# Altium footprint library CAP SMD.PcbLib: 27 footprints (part 2 of 2)
Each footprint in its own frame and in the unit in brackets; x right, y up, seen from the top. Pads: shape width x height; smd on the part's side, far side on the other; paste and mask are expansions set on the pad; w line width, h text height; cw(c..) or ccw(c..) is an arc to the next point about the centre after c.
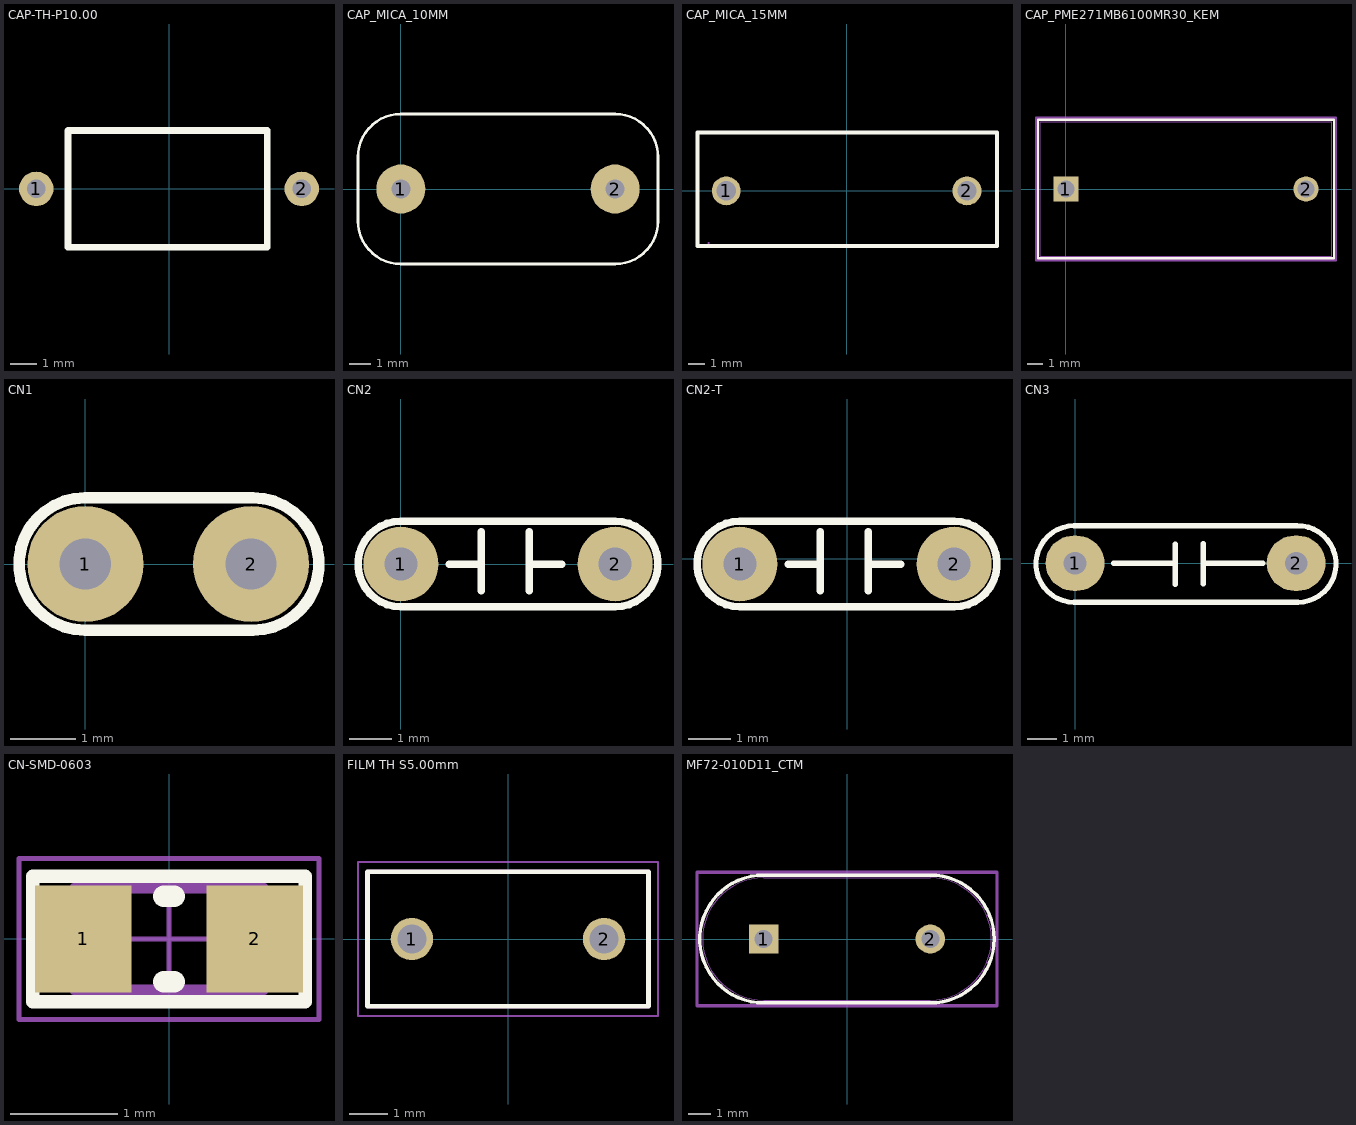
[diagram p1: the footprints below, top view; thin cyan lines are the x and y axes]

## CAP-TH-P10.00 [mm]
pads (2):
  round 1.3 hole 0.7 paste+0 mask+0.051: 1(-5,0) 2(5,0)
Top Overlay:
  lines w0.254: -3.8,-2.2 -3.8,2.2 3.7,2.2 3.7,-2.2 -3.8,-2.2
Mechanical 15:
  lines w0.051: -3.81,-2.21 3.708,-2.21 3.708,2.184 -3.81,2.184 -3.81,-2.21
Mechanical 29:
  text "'.Designator'" at -3.734,-0.762 h1.52
3D body "c911u102mvwdba7317.stp": height 14, standoff -17.8, extent -5.249,-2.514 5.401,2.489

## CAP_MICA_10MM [mil]
pads (2):
  round 90 hole 35: 1(0,0) 2(393.7,0)
Top Overlay:
  lines w4.72: -78.74,-59.06 ccw(c0,-59.06) 0,-137.8 393.7,-137.8 ccw(c393.7,-59.06) 472.44,-59.06 ; -78.74,59.06 cw(c0,59.06) 0,137.8 393.7,137.8 cw(c393.7,59.06) 472.44,59.06
  lines w5: -78.74,-59.06 -78.74,59.06 ; 472.44,-59.06 472.44,59.06
Mechanical 29:
  text "'.Designator'" at 27,-12.01 h60
3D body "User Library-Capacitor MKT_B32591C3104 (Pitch 10mm).STEP": height 570.87, standoff -157.48, extent -59.9,-99.85 451.9,97

## CAP_MICA_15MM [mm]
pads (2):
  round 1.8 hole 1.2 paste+0 mask+0.05: 1(-7.5,0) 2(7.5,0)
Top Overlay:
  lines w0.254: -9.296,-3.429 9.373,-3.429 9.373,3.632 -9.296,3.632 -9.296,-3.429
Mechanical 15:
  region: -8.54,-3.25 -8.54,-3.275 -8.575,-3.31 -8.625,-3.31 -8.66,-3.275 -8.66,-3.25 -8.66,-3.225 -8.625,-3.19 -8.575,-3.19 -8.54,-3.225
  region: 7.9,0 7.9,-0.08 7.839,-0.227 7.727,-0.339 7.58,-0.4 7.42,-0.4 7.273,-0.339 7.161,-0.227 7.1,-0.08 7.1,0 7.1,0.08 7.161,0.227 7.273,0.339 7.42,0.4 7.58,0.4 7.727,0.339 7.839,0.227 7.9,0.08
  region: -7.1,0 -7.1,-0.08 -7.161,-0.227 -7.273,-0.339 -7.42,-0.4 -7.58,-0.4 -7.727,-0.339 -7.839,-0.227 -7.9,-0.08 -7.9,0 -7.9,0.08 -7.839,0.227 -7.727,0.339 -7.58,0.4 -7.42,0.4 -7.273,0.339 -7.161,0.227 -7.1,0.08
  lines w0.051: -9.322,-3.429 -9.322,3.658 9.373,3.658 9.373,-3.429 -9.322,-3.429
Mechanical 29:
  text "'.Designator'" at -8.407,-0.584 h1.52
3D body "User Library-CBB81_W18_5_H12_5_T7_0_P15_0.STEP": height 15.5, standoff -10, extent -9.248,-3.429 9.248,3.571

## CAP_PME271MB6100MR30_KEM [mil]
pads (2):
  rect 63x63 / inner round 60 / far side rect 63x63 hole 43 paste-31.5 mask+0: 1(0,0)
  round 63 / inner round 60 / far side round 63 hole 43 paste-31.5 mask+0: 2(598.43,0)
Top Overlay:
  lines w6: -69.79,-172.5 668.21,-172.5 668.21,172.5 -69.79,172.5 -69.79,-172.5
Mechanical 15:
  lines w1: -64.79,-167.5 663.21,-167.5 663.21,167.5 -64.79,167.5 -64.79,-167.5
  lines w6: -74.79,-177.5 -74.79,177.5 673.21,177.5 673.21,-177.5 -74.79,-177.5
Mechanical 29:
  text "'.Designator'" at 43,-17 h50
3D body "CAP_PME271MB6100MR30_KEM.step": height 542.99, standoff -199.02, extent -81.3,-167.48 646.74,167.48

## CN1 [mil]
height 200
pads (2):
  round 70 hole 31: 1(0,0) 2(100,0)
Top Overlay:
  lines w7: 100,-40 0,-40 cw(c0,0) 0,40 100,40 ; 101,-40 ccw(c101,0) 101,40
Mechanical 29:
  text "'.Designator'" at -52.06,-3.5 h19.68
3D body "SW3dPS-Cap 100n.STEP": height 265, standoff -46.85, extent -59.94,-30.01 170.06,36.78

## CN2 [mil]
height 200
pads (2):
  round 70 hole 31: 1(0,0) 2(200,0)
Top Overlay:
  lines w7: 45,0 75,0 ; 75,-25 75,30 ; 120,-25 120,30 ; 120,0 150,0 ; 0,-40 cw(c0,0) 0,40 200,40 cw(c200,0) 200,-40 0,-40
Mechanical 29:
  text "'.Designator'" at -11.06,-7.5 h19.68
3D body "tu hoa 5mm.step": height 407.48, standoff -87.28, extent -54.48,-44.21 260.48,54.6

## CN2-T [mil]
height 200
pads (2):
  round 70 hole 31: 1(-100,-5) 2(100,-5)
Top Overlay:
  lines w7: -55,-5 -25,-5 ; -25,-30 -25,25 ; 20,-30 20,25 ; 20,-5 50,-5 ; -100,-45 cw(c-100,-5) -100,35 100,35 cw(c100,-5) 100,-45 -100,-45
Mechanical 29:
  text "'.Designator'" at -92,-23.01 h60
3D body "User Library-Disc_CAP d6x3_5_5mm.step": height 318.9, standoff -79.53, extent -118.11,-47.67 118.11,35

## CN3 [mil] "Cap np W 0.3"
height 200
pads (2):
  oval 80x75 hole 31: 1(0,0) 2(300,0)
Top Overlay:
  lines w7: -1,-53 cw(c-1,-1) -1,51 ; 0,51 300,51 ; 1,-53 300,-53 ; 52,0 136,0 ; 136,-29 136,26 ; 174,-28 174,27 ; 174,0 255,0 ; 300.96,50.99 cw(c302,-1) 302,-53
Mechanical 29:
  text "'.Designator'" at 21,-14.01 h60
3D body "SW3dPS-Panasonic ECK-A3D102KBP.STEP": height 419.95, standoff -100, extent 0,-39.04 315,54.74

## CN-SMD-0603 [mm]
pads (2):
  rect 0.9x1 smd: 1(-0.8,0) 2(0.8,0)
Top Overlay:
  lines w0.127: -1.27,-0.584 1.27,-0.584 1.27,0.584 -1.27,0.584 -1.27,-0.584
  lines w0.2: -0.05,-0.4 0.05,-0.4 ; -0.05,0.4 0.05,0.4
Mechanical 15:
  lines w0.1: -0.875,-0.475 0.875,-0.475 0.875,0.475 -0.875,0.475 -0.875,-0.475
Mechanical 29:
  lines w0.05: -0.475,0 0.475,0 ; 0,-0.475 0,0.475 ; -1.397,-0.75 1.397,-0.75 1.397,0.75 -1.397,0.75 -1.397,-0.75
  text "'.Designator'" at -1.17,-0.241 h0.5
3D body "User Library-0603 SMD Capacitor.step": height 0.3, standoff 0, extent -0.8,-0.4 0.8,0.4

## FILM TH S5.00mm [mm]
pads (2):
  round 1.1 hole 0.75: 1(-2.5,0) 2(2.5,0)
Top Overlay:
  lines w0.127: -3.65,-1.75 3.65,-1.75 3.65,1.75 -3.65,1.75 -3.65,-1.75
Mechanical 15:
  lines w0.127: -3.65,-1.75 -3.65,1.75 3.65,1.75 3.65,-1.75 -3.65,-1.75
Mechanical 29:
  lines w0.05: -3.9,-2 -3.9,2 3.9,2 3.9,-2 -3.9,-2
  text "'.Designator'" at -2.083,-0.432 h1.52
3D body "CAP_B32529_03_5X08_0X07_3_TDK.step": height 8, standoff -4.22, extent -3.645,-1.778 3.645,1.728

## MF72-010D11_CTM [mil]
pads (2):
  rect 52x52 / inner round 60 / far side rect 52x52 hole 32 paste-26 mask+0: 1(-147.64,0)
  round 52 / inner round 60 / far side round 52 hole 32 paste-26 mask+0: 2(147.64,0)
Top Overlay:
  lines w6: -147.64,-113.27 cw(c-147.64,0) -147.64,113.27 147.64,113.27 cw(c147.64,0) 260.91,0 cw(c147.64,0) 147.64,-113.27 -147.64,-113.27
Mechanical 15:
  lines w0: -147.64,-108.27 cw(c-147.64,0) -147.64,108.27 ; 147.64,-108.27 ccw(c147.64,0) 147.64,108.27
  lines w1: -147.64,-108.27 147.64,-108.27 ; -147.64,108.27 147.64,108.27
  lines w6: -265.91,-118.27 -265.91,118.27 265.91,118.27 265.91,-118.27 -265.91,-118.27
Mechanical 29:
  text "'.Designator'" at -211,-22 h50
3D body "MF72-010D11_CTM.step": height 669.29, standoff -160.87, extent -259.81,-107.27 252,109.27